# Altium schematic symbol library TLV758P.SchLib: 1 symbol
Pins are listed as number, name and electrical type; pins without a type are passive.

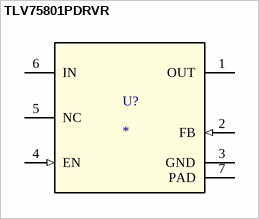
[diagram p0: symbol TLV75801PDRVR]

## TLV75801PDRVR
designator U?
Imported; PartNumber: TLV75801PDRVR; Manufacturer: Texas Instruments; RefDes: RefDes; TYPE: TYPE; Value: Value
footprint DRV0006A
footprint DRV0006A
pins: 1 OUT (power), 2 FB (in), 3 GND (power), 4 EN (in), 5 NC, 6 IN (power), 7 PAD (power)